# EAGLE library part 74*4052 (library IC)
Dual 4-channel analog multiplexer/demultiplexer http://www.nxp.com/documents/data_sheet/74HC_HCT4052.pdf
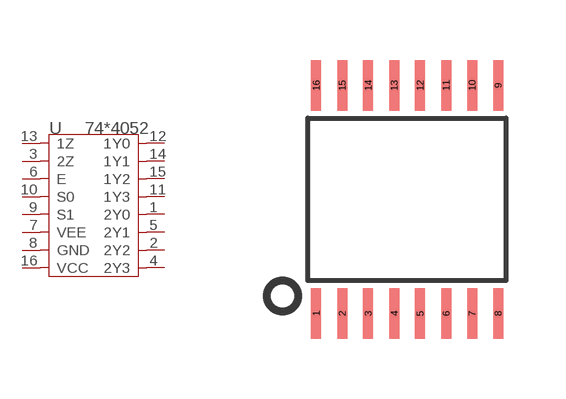
[diagram p46: symbol with the pads of TSSOP16-6.4; footprint TSSOP16-6.4]

Designator prefix U

## 74HC4052PW, 74HCT4052PW  [TSSOP16-6.4]
1  2Y0
2  2Y2
3  2Z
4  2Y3
5  2Y1
6  E  in
7  VEE  sup
8  GND  sup
9  S1  in
10  S0  in
11  1Y3
12  1Y0
13  1Z
14  1Y1
15  1Y2
16  VCC  sup

## Footprint TSSOP16-6.4 (pad centres in mm)
smd 0.25 x 1.27: 1 -2.268,-2.85; 2 -1.617,-2.85; 3 -0.968,-2.85; 4 -0.318,-2.85; 5 0.333,-2.85; 6 0.983,-2.85; 7 1.633,-2.85; 8 2.283,-2.85; 9 2.283,2.85; 10 1.633,2.85; 11 0.983,2.85; 12 0.333,2.85; 13 -0.318,2.85; 14 -0.968,2.85; 15 -1.617,2.85; 16 -2.268,2.85